# EAGLE library part TPS54560 (library my_ic)
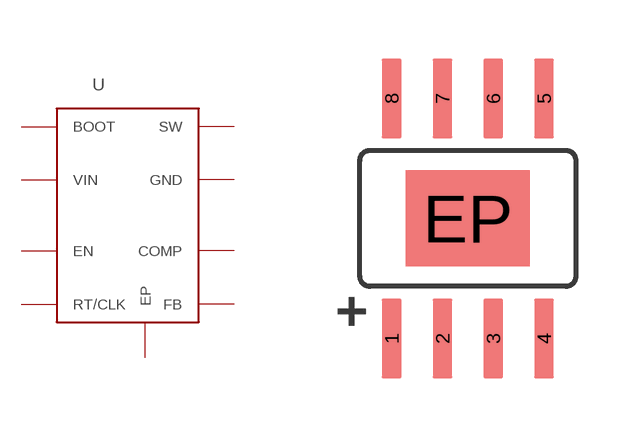
[diagram p20: symbol with the pads of 8HSOIC; footprint 8HSOIC]

Designator prefix -

## TPS54560  [8HSOIC]
1  BOOT
2  VIN
3  EN
4  RT/CLK
5  FB
6  COMP
7  GND
8  SW
EP  EP

## Footprint 8HSOIC (pad centres in mm)
smd 0.5 x 2: 1 -1.905,-3; 2 -0.635,-3; 3 0.635,-3; 4 1.905,-3; 5 1.905,3; 6 0.635,3; 7 -0.635,3; 8 -1.905,3
smd 3.1 x 2.4: EP 0,0